# Altium schematic symbol library CAP_470uF_POL_SMD.SchLib: 1 symbol
Pins are listed as number, name and electrical type; pins without a type are passive.

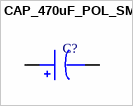
[diagram p0: symbol CAP_470uF_POL_SMD]

## CAP_470uF_POL_SMD
designator C?  (value not drawn)
CAP ALUM 470UF 20% 6.3V SMD; Supplier 1: Digi-Key; Supplier Part Number 1: 1189-2493-1-ND
footprint CAP_470uF_POL_SMD
pins: 1, 2